# Altium schematic symbol library LT1054.SchLib: 1 symbol
Pins are listed as number, name and electrical type; pins without a type are passive.

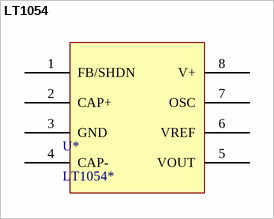
[diagram p0: symbol LT1054]

## LT1054
designator U*, comment LT1054*
footprint DIP8-300 (9.4*7.6*3.8(长宽高）)
pins: 1 FB/SHDN, 2 CAP+, 3 GND, 4 CAP-, 5 VOUT, 6 VREF, 7 OSC, 8 V+